# EAGLE library part ESP32-S3-WROOM-1 (library _esp32)
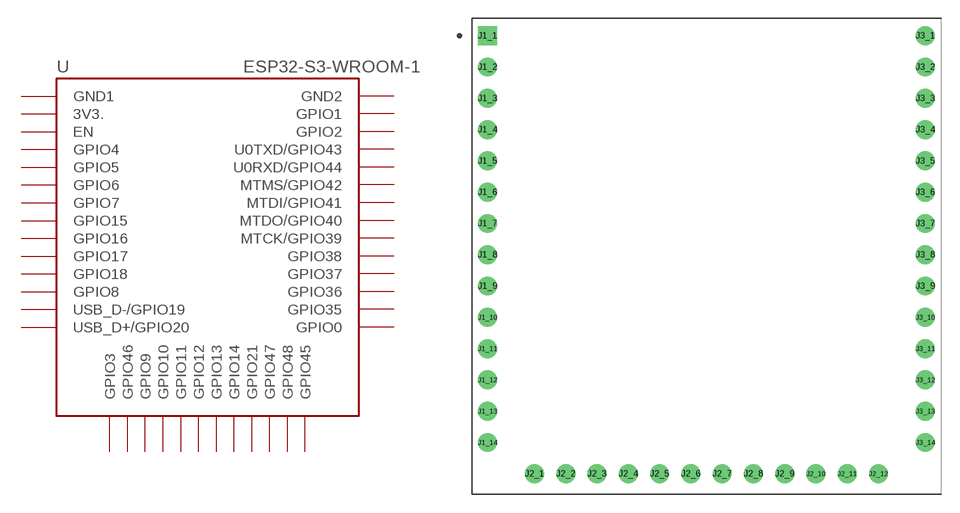
[diagram p4: symbol with the pads of ESP32-S3-WROOM-1; footprint ESP32-S3-WROOM-1]

Designator prefix -

## ESP32-S3-WROOM-1  [ESP32-S3-WROOM-1]
J1_1  GND1  pwr
J1_2  3V3.  pwr
J1_3  EN  in
J1_4  GPIO4
J1_5  GPIO5
J1_6  GPIO6
J1_7  GPIO7
J1_8  GPIO15
J1_9  GPIO16
J1_10  GPIO17
J1_11  GPIO18
J1_12  GPIO8
J1_13  USB_D-/GPIO19
J1_14  USB_D+/GPIO20
J2_1  GPIO3
J2_2  GPIO46
J2_3  GPIO9
J2_4  GPIO10
J2_5  GPIO11
J2_6  GPIO12
J2_7  GPIO13
J2_8  GPIO14
J2_9  GPIO21
J2_10  GPIO47
J2_11  GPIO48
J2_12  GPIO45
J3_1  GND2  pwr
J3_2  GPIO1
J3_3  GPIO2
J3_4  U0TXD/GPIO43
J3_5  U0RXD/GPIO44
J3_6  MTMS/GPIO42
J3_7  MTDO/GPIO40
J3_8  MTDI/GPIO41
J3_9  MTCK/GPIO39
J3_10  GPIO38
J3_11  GPIO37
J3_12  GPIO36
J3_13  GPIO35
J3_14  GPIO0

## Footprint ESP32-S3-WROOM-1 (pad centres in mm)
drill 1.02 square: J1_1 -11.43,29.97
drill 1.02: J1_2 -11.43,27.43; J1_3 -11.43,24.89; J1_4 -11.43,22.35; J1_5 -11.43,19.81; J1_6 -11.43,17.27; J1_7 -11.43,14.73; J1_8 -11.43,12.19; J1_9 -11.43,9.65; J1_10 -11.43,7.11; J1_11 -11.43,4.57; J1_12 -11.43,2.03; J1_13 -11.43,-0.51; J1_14 -11.43,-3.05; J2_1 -7.62,-5.59; J2_2 -5.08,-5.59; J2_3 -2.54,-5.59; J2_4 0,-5.59; J2_5 2.54,-5.59; J2_6 5.08,-5.59; J2_7 7.62,-5.59; J2_8 10.16,-5.59; J2_9 12.7,-5.59; J2_10 15.24,-5.59; J2_11 17.78,-5.59; J2_12 20.32,-5.59; J3_1 24.13,29.97; J3_2 24.13,27.43; J3_3 24.13,24.89; J3_4 24.13,22.35; J3_5 24.13,19.81; J3_6 24.13,17.27; J3_7 24.13,14.73; J3_8 24.13,12.19; J3_9 24.13,9.65; J3_10 24.13,7.11; J3_11 24.13,4.57; J3_12 24.13,2.03; J3_13 24.13,-0.51; J3_14 24.13,-3.05